# Altium footprint library SIGNAL.PcbLib: 4 footprints
Each footprint in its own frame and in the unit in brackets; x right, y up, seen from the top. Pads: shape width x height; smd on the part's side, far side on the other; paste and mask are expansions set on the pad; w line width, h text height; cw(c..) or ccw(c..) is an arc to the next point about the centre after c.
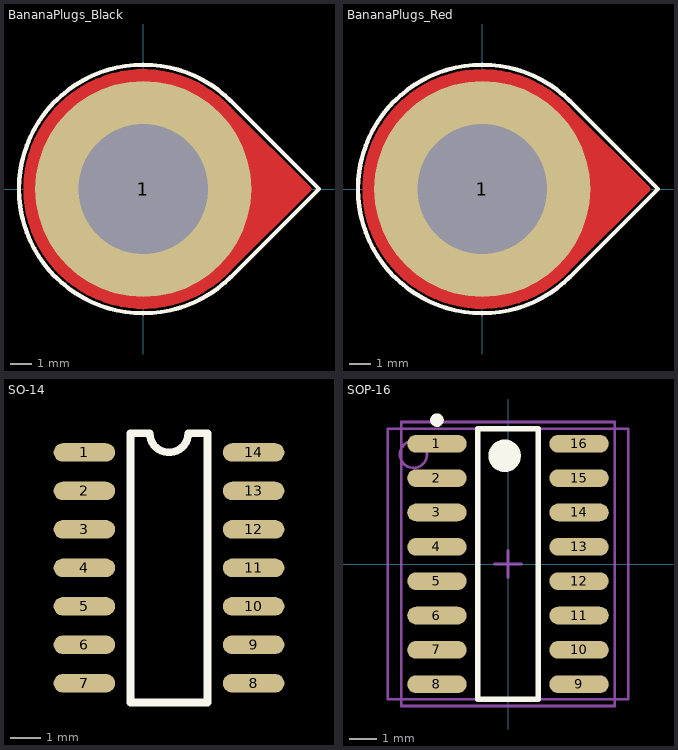
[diagram p0: the footprints below, top view; thin cyan lines are the x and y axes]

## BananaPlugs_Black [mil]
height 169.29
pads (1):
  round 400 hole 240: 1(0,0)
Top Layer:
  region: 158.7,-146.64 153.06,-153.06 131.77,-171.73 108.23,-187.46 82.84,-199.99 56.02,-209.09 28.25,-214.61 0,-216.46 -28.25,-214.61 -56.02,-209.09 -82.84,-199.99 -108.23,-187.46 -131.77,-171.73 -153.06,-153.06 -171.73,-131.77 -187.46,-108.23 -199.99,-82.84 -209.09,-56.02 -214.61,-28.25 -216.46,0 -214.61,28.25 -209.09,56.02 -199.99,82.84 -187.46,108.23 -171.73,131.77 -153.06,153.06 -131.77,171.73 -108.23,187.46 -82.84,199.99 -56.02,209.09 -28.25,214.61 0,216.46 28.25,214.61 56.02,209.09 82.84,199.99 108.23,187.46 131.77,171.73 153.06,153.06 158.7,146.64 158.64,146.59 159,146 305,0
  lines w12: 158.64,-146.59 cw(c0,0) -216,0 cw(c0,0) 158.64,146.59 ; 159,-146 305,0 159,146
Bottom Layer:
  region: 158.7,-146.64 153.06,-153.06 131.77,-171.73 108.23,-187.46 82.84,-199.99 56.02,-209.09 28.25,-214.61 0,-216.46 -28.25,-214.61 -56.02,-209.09 -82.84,-199.99 -108.23,-187.46 -131.77,-171.73 -153.06,-153.06 -171.73,-131.77 -187.46,-108.23 -199.99,-82.84 -209.09,-56.02 -214.61,-28.25 -216.46,0 -214.61,28.25 -209.09,56.02 -199.99,82.84 -187.46,108.23 -171.73,131.77 -153.06,153.06 -131.77,171.73 -108.23,187.46 -82.84,199.99 -56.02,209.09 -28.25,214.61 0,216.46 28.25,214.61 56.02,209.09 82.84,199.99 108.23,187.46 131.77,171.73 153.06,153.06 158.7,146.64 158.64,146.59 159,146 305,0
Top Overlay:
  lines w8: 162.63,-162.63 cw(c0,0) 162.63,162.63 325.27,0 162.63,-162.63
Bottom Overlay:
  lines w8: 162.63,-162.63 cw(c0,0) 162.63,162.63 325.27,0 162.63,-162.63
Top Solder:
  region: 158.7,-146.64 153.06,-153.06 131.77,-171.73 108.23,-187.46 82.84,-199.99 56.02,-209.09 28.25,-214.61 0,-216.46 -28.25,-214.61 -56.02,-209.09 -82.84,-199.99 -108.23,-187.46 -131.77,-171.73 -153.06,-153.06 -171.73,-131.77 -187.46,-108.23 -199.99,-82.84 -209.09,-56.02 -214.61,-28.25 -216.46,0 -214.61,28.25 -209.09,56.02 -199.99,82.84 -187.46,108.23 -171.73,131.77 -153.06,153.06 -131.77,171.73 -108.23,187.46 -82.84,199.99 -56.02,209.09 -28.25,214.61 0,216.46 28.25,214.61 56.02,209.09 82.84,199.99 108.23,187.46 131.77,171.73 153.06,153.06 158.7,146.64 158.64,146.59 159,146 305,0
Bottom Solder:
  region: 158.7,-146.64 153.06,-153.06 131.77,-171.73 108.23,-187.46 82.84,-199.99 56.02,-209.09 28.25,-214.61 0,-216.46 -28.25,-214.61 -56.02,-209.09 -82.84,-199.99 -108.23,-187.46 -131.77,-171.73 -153.06,-153.06 -171.73,-131.77 -187.46,-108.23 -199.99,-82.84 -209.09,-56.02 -214.61,-28.25 -216.46,0 -214.61,28.25 -209.09,56.02 -199.99,82.84 -187.46,108.23 -171.73,131.77 -153.06,153.06 -131.77,171.73 -108.23,187.46 -82.84,199.99 -56.02,209.09 -28.25,214.61 0,216.46 28.25,214.61 56.02,209.09 82.84,199.99 108.23,187.46 131.77,171.73 153.06,153.06 158.7,146.64 158.64,146.59 159,146 305,0
3D body: height 326.77, standoff -303.18, extent -222.44,-222.19 456.69,222.19

## BananaPlugs_Red [mil]
height 169.29
pads (1):
  round 400 hole 240: 1(0,0)
Top Layer:
  region: 158.7,-146.64 153.06,-153.06 131.77,-171.73 108.23,-187.46 82.84,-199.99 56.02,-209.09 28.25,-214.61 0,-216.46 -28.25,-214.61 -56.02,-209.09 -82.84,-199.99 -108.23,-187.46 -131.77,-171.73 -153.06,-153.06 -171.73,-131.77 -187.46,-108.23 -199.99,-82.84 -209.09,-56.02 -214.61,-28.25 -216.46,0 -214.61,28.25 -209.09,56.02 -199.99,82.84 -187.46,108.23 -171.73,131.77 -153.06,153.06 -131.77,171.73 -108.23,187.46 -82.84,199.99 -56.02,209.09 -28.25,214.61 0,216.46 28.25,214.61 56.02,209.09 82.84,199.99 108.23,187.46 131.77,171.73 153.06,153.06 158.7,146.64 158.64,146.59 159,146 305,0
  lines w12: 158.64,-146.59 cw(c0,0) -152.74,-152.74 cw(c0,0) 158.64,146.59 ; 159,-146 305,0 159,146
Bottom Layer:
  region: 158.7,-146.64 153.06,-153.06 131.77,-171.73 108.23,-187.46 82.84,-199.99 56.02,-209.09 28.25,-214.61 0,-216.46 -28.25,-214.61 -56.02,-209.09 -82.84,-199.99 -108.23,-187.46 -131.77,-171.73 -153.06,-153.06 -171.73,-131.77 -187.46,-108.23 -199.99,-82.84 -209.09,-56.02 -214.61,-28.25 -216.46,0 -214.61,28.25 -209.09,56.02 -199.99,82.84 -187.46,108.23 -171.73,131.77 -153.06,153.06 -131.77,171.73 -108.23,187.46 -82.84,199.99 -56.02,209.09 -28.25,214.61 0,216.46 28.25,214.61 56.02,209.09 82.84,199.99 108.23,187.46 131.77,171.73 153.06,153.06 158.7,146.64 158.64,146.59 159,146 305,0
Top Overlay:
  lines w8: 162.63,-162.63 cw(c0,0) 162.63,162.63 325.27,0 162.63,-162.63
Bottom Overlay:
  lines w8: 162.63,-162.63 cw(c0,0) 162.63,162.63 325.27,0 162.63,-162.63
Top Solder:
  region: 158.7,-146.64 153.06,-153.06 131.77,-171.73 108.23,-187.46 82.84,-199.99 56.02,-209.09 28.25,-214.61 0,-216.46 -28.25,-214.61 -56.02,-209.09 -82.84,-199.99 -108.23,-187.46 -131.77,-171.73 -153.06,-153.06 -171.73,-131.77 -187.46,-108.23 -199.99,-82.84 -209.09,-56.02 -214.61,-28.25 -216.46,0 -214.61,28.25 -209.09,56.02 -199.99,82.84 -187.46,108.23 -171.73,131.77 -153.06,153.06 -131.77,171.73 -108.23,187.46 -82.84,199.99 -56.02,209.09 -28.25,214.61 0,216.46 28.25,214.61 56.02,209.09 82.84,199.99 108.23,187.46 131.77,171.73 153.06,153.06 158.7,146.64 158.64,146.59 159,146 305,0
Bottom Solder:
  region: 158.7,-146.64 153.06,-153.06 131.77,-171.73 108.23,-187.46 82.84,-199.99 56.02,-209.09 28.25,-214.61 0,-216.46 -28.25,-214.61 -56.02,-209.09 -82.84,-199.99 -108.23,-187.46 -131.77,-171.73 -153.06,-153.06 -171.73,-131.77 -187.46,-108.23 -199.99,-82.84 -209.09,-56.02 -214.61,-28.25 -216.46,0 -214.61,28.25 -209.09,56.02 -199.99,82.84 -187.46,108.23 -171.73,131.77 -153.06,153.06 -131.77,171.73 -108.23,187.46 -82.84,199.99 -56.02,209.09 -28.25,214.61 0,216.46 28.25,214.61 56.02,209.09 82.84,199.99 108.23,187.46 131.77,171.73 153.06,153.06 158.7,146.64 158.64,146.59 159,146 305,0
3D body: height 326.77, standoff -303.18, extent -222.45,-222.2 456.69,222.18

## SO-14 [mil]
pads (14):
  oval 80x24 smd: 1(142,-76) 2(142,-126) 3(142,-176) 4(142,-226) 5(142,-276) 6(142,-326) 7(142,-376) 8(362,-376) 9(362,-326) 10(362,-276) 11(362,-226) 12(362,-176) 13(362,-126) 14(362,-76)
Top Overlay:
  lines w10: 202,-401 202,-51 227,-51 ccw(c252,-51) 277,-51 302,-51 302,-401 202,-401

## SOP-16 [mm] "SOP, 16-Leads, Body 10.0x8.9mm (max), Pitch 1.27mm, IPC Medium Density"
height 1.75
pads (16):
  oval 2.2x0.65 smd: 1(-2.625,4.445) 2(-2.625,3.175) 3(-2.625,1.905) 4(-2.625,0.635) 5(-2.625,-0.635) 6(-2.625,-1.905) 7(-2.625,-3.175) 8(-2.625,-4.445) 9(2.625,-4.445) 10(2.625,-3.175) 11(2.625,-1.905) 12(2.625,-0.635) 13(2.625,0.635) 14(2.625,1.905) 15(2.625,3.175) 16(2.625,4.445)
Top Overlay:
  circle w0.25: c-2.625,5.32 r0.125
  circle w0.6: c-0.125,4 r0.3
  lines w0.2: -1.125,-5 -1.125,5 1.125,5 1.125,-5 -1.125,-5
Mechanical 13:
  circle w0.1: c-3.495,4.05 r0.5
  lines w0.1: -4.445,-5 -4.445,5 4.445,5 4.445,-5 -4.445,-5
Mechanical 15:
  lines w0.1: -0.5,0 0.5,0 ; 0,-0.5 0,0.5 ; -3.95,-5.25 -3.95,5.25 3.95,5.25 3.95,-5.25 -3.95,-5.25
3D body: height 1.75, standoff 0.1, extent -1.125,-5 1.125,5